# EAGLE library part DIP-BLUE-MALE-HEADER-VERT(6P-2.54) (library OPL-Connector)
320020005
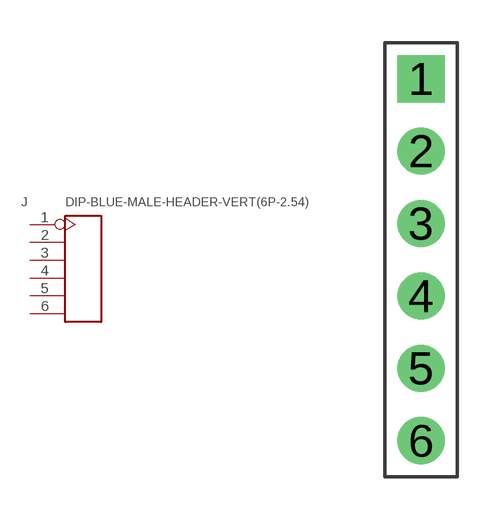
[diagram p3: symbol with the pads of H6-2.54; footprint H6-2.54]

Designator prefix J

## DIP-BLUE-MALE-HEADER-VERT(6P-2.54) (MPN: P125-1106A0BS116A1)  [H6-2.54]
1  1
2  2
3  3
4  4
5  5
6  6

## Footprint H6-2.54 (pad centres in mm)
drill 0.889 pad 1.651 square: 1 0,6.35
drill 0.889 pad 1.651: 2 0,3.81; 3 0,1.27; 4 0,-1.27; 5 0,-3.81; 6 0,-6.35